# Altium schematic symbol library LT1129IST-5#PBF.SchLib: 1 symbol
Pins are listed as number, name and electrical type; pins without a type are passive.

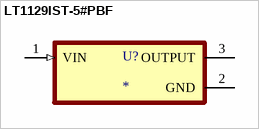
[diagram p0: symbol LT1129IST-5#PBF]

## LT1129IST-5#PBF
designator U?
MF: {'manufacturer': u'Analog Devices'}; MP: LT1129IST-5#PBF; Availability: Unavailable; Price: None; Value: *; Package: None
footprint SOT230P700X180-4N
pins: 1 VIN (in), 2 GND (power), 3 OUTPUT (power)